# Altium schematic symbol library Libreria_Casera.SchLib: 169 symbols (part 2 of 2)
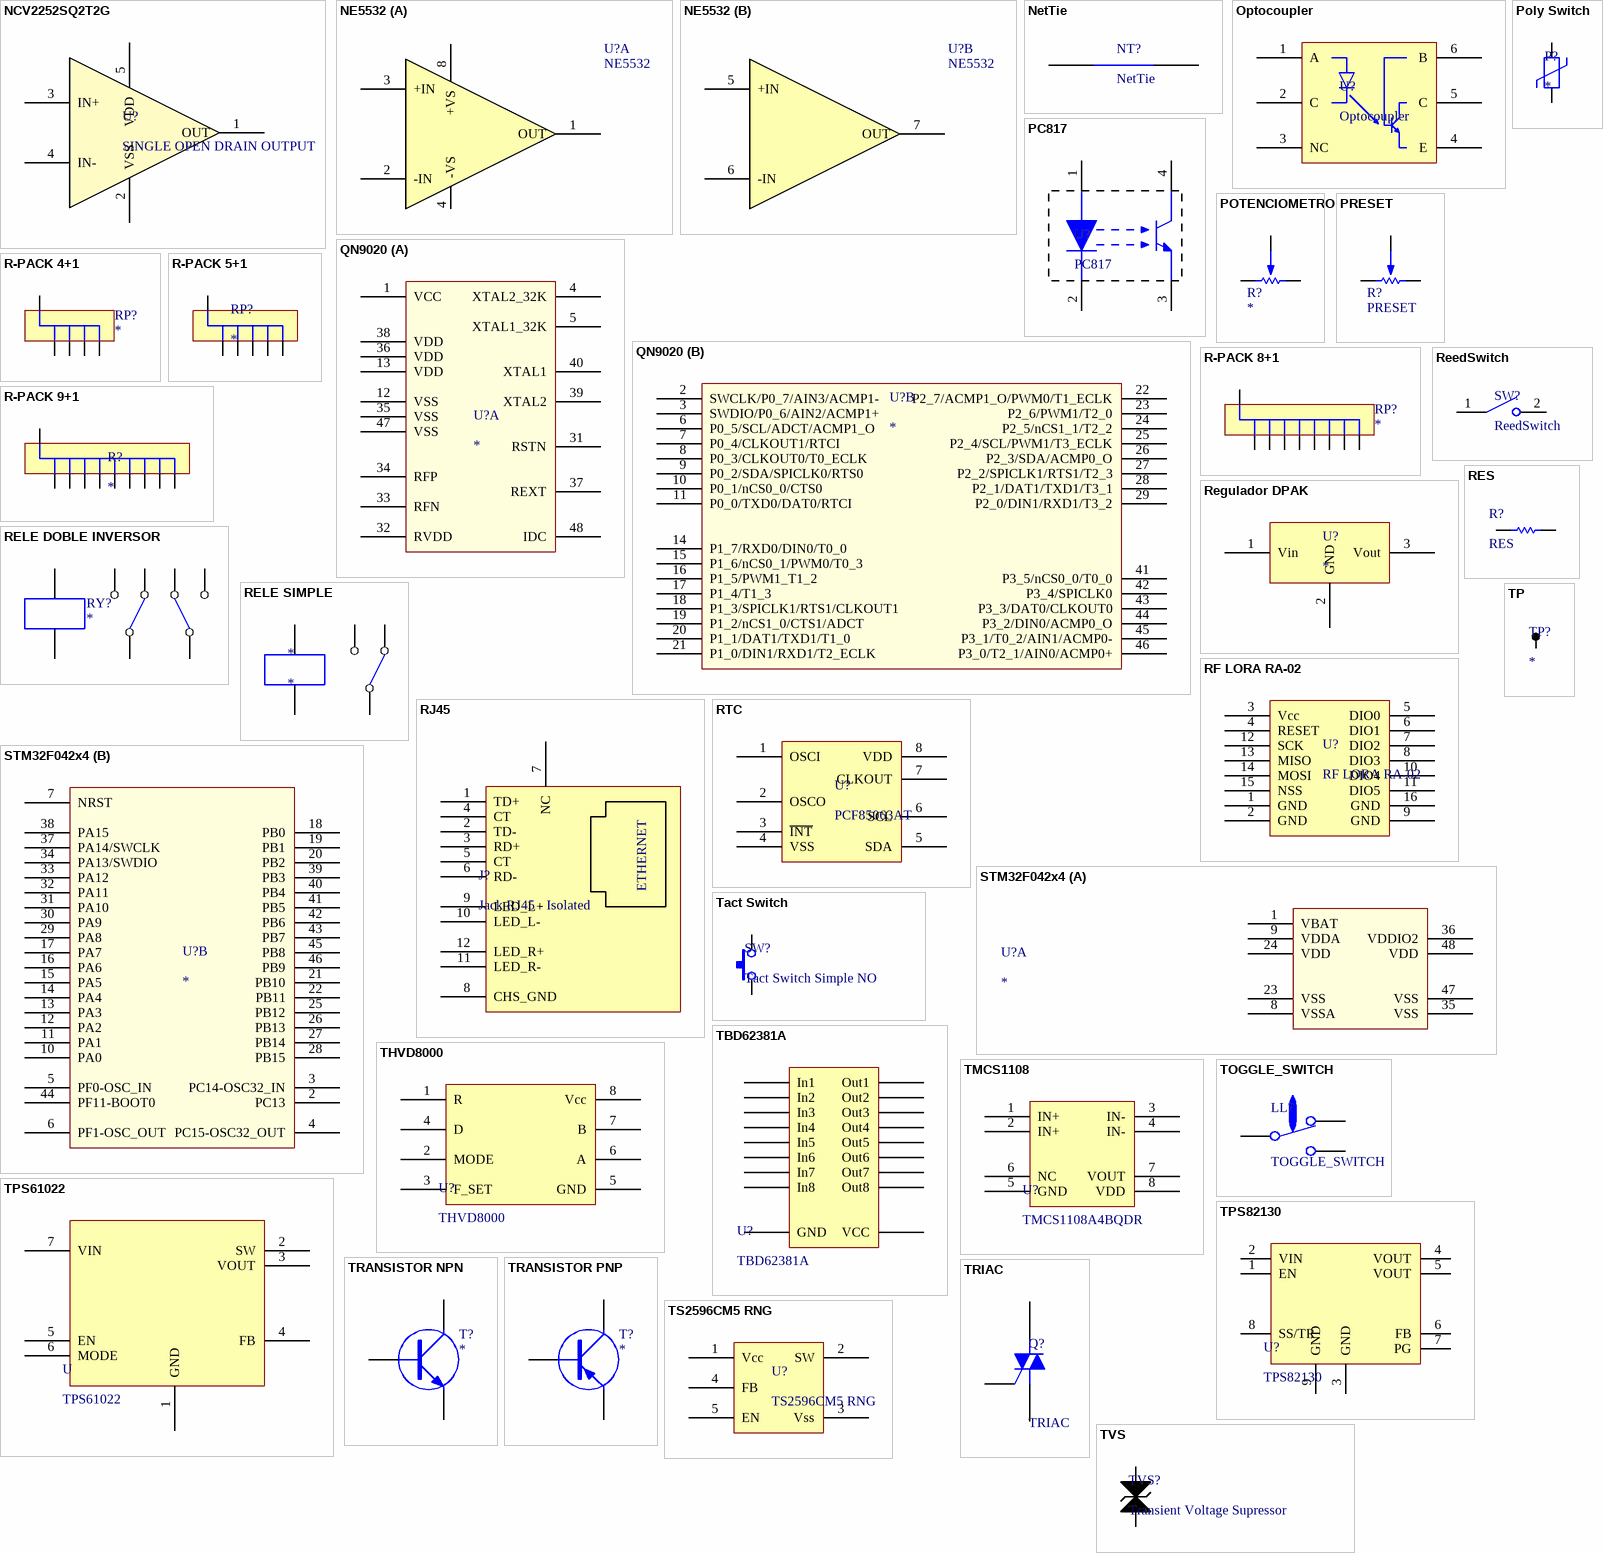
[diagram p8: symbols NCV2252SQ2T2G to TVS]

## RES
designator R?
footprint 0805 (Chip Resistor, 2-Leads, Body 0,8"x0,5" - 2,0x1,3mm, IPC High Density)
footprint RES400
footprint RES100
footprint RES300
footprint 1206 (Pasivo 1206)
footprint RES500
footprint RES600
footprint RES1200
footprint 2512
footprint 0402 (Chip Resistor, 2-Leads, Body 1,00x0,50mm, IPC Medium Density)
footprint 0603 (Pasivo 0603)
pins: 1, 2

## RF LORA RA-02
designator U?
ISM General < 1GHz LoRa™ Módulos de transceptor RF 410MHz ~ 525MHz Antena no incluida, I-PEX Montaje en superficie
footprint RF LORA RA-02 (LORA MODULE, 433MHZ, SEMTECH SX1)
pins: 1 GND, 2 GND, 3 Vcc, 4 RESET, 5 DIO0, 6 DIO1, 7 DIO2, 8 DIO3, 9 GND, 10 DIO4, 11 DIO5, 12 SCK, 13 MISO, 14 MOSI, 15 NSS, 16 GND

## RJ45
designator J?, comment Jack RJ45 - Isolated
pins: 1 TD+, 2 TD-, 3 RD+, 4 CT, 5 CT, 6 RD-, 7 NC, 8 CHS_GND, 9 LED_L+, 10 LED_L-, 11 LED_R-, 12 LED_R+
text: ETHERNET

## RTC
designator U?, comment PCF85063AT
Relojes de tiempo real (RTC) IC Reloj/calendario I²C, 2 conductores en serie 8-SOIC (ancho 0.154", 3.90mm)
footprint SO8
pins: 1 OSCI, 2 OSCO, 3 ~{INT}, 4 VSS, 5 SDA, 6 SCL, 7 CLKOUT, 8 VDD

## STM32F042x4
designator U?
ARM®-based 32-bit MCU, up to 32 KB Flash, crystal-less USB  FS 2.0, CAN, 9 timers, ADC and comm. interfaces, 2.0 - 3.6 V
footprint LQFP48 - 7x7
part A pins: 1 VBAT, 8 VSSA, 9 VDDA, 23 VSS, 24 VDD, 35 VSS, 36 VDDIO2, 47 VSS, 48 VDD
part B pins: 2 PC13, 3 PC14-OSC32_IN, 4 PC15-OSC32_OUT, 5 PF0-OSC_IN, 6 PF1-OSC_OUT, 7 NRST, 10 PA0, 11 PA1, 12 PA2, 13 PA3, 14 PA4, 15 PA5, 16 PA6, 17 PA7, 18 PB0, 19 PB1, 20 PB2, 21 PB10, 22 PB11, 25 PB12, 26 PB13, 27 PB14, 28 PB15, 29 PA8, 30 PA9, 31 PA10, 32 PA11, 33 PA12, 34 PA13/SWDIO, 37 PA14/SWCLK, 38 PA15, 39 PB3, 40 PB4, 41 PB5, 42 PB6, 43 PB7, 44 PF11-BOOT0, 45 PB8, 46 PB9

## Tact Switch
designator SW?, comment Tact Switch Simple NO
footprint Tactswitch_90
pins: 1 127, 2 28

## TBD62381A
designator U?
footprint Soic18w
pins: 1 In1, 2 In2, 3 In3, 4 In4, 5 In5, 6 In6, 7 In7, 8 In8, 9 GND, 10 VCC, 11 Out8, 12 Out7, 13 Out6, 14 Out5, 15 Out4, 16 Out3, 17 Out2, 18 Out1

## THVD8000
designator U?
footprint sot23-8 (TSOP, 8-Leads, Body 2,90x1,60mm, Pitch 0,65mm, IPC Medium Density)
pins: 1 R, 2 MODE, 3 F_SET, 4 D, 5 GND, 6 A, 7 B, 8 Vcc

## TMCS1108
designator U?, comment TMCS1108A4BQDR
Supplier 1: Digi-Key; Supplier Part Number 1: 296-TMCS1108A4BQDRCT-ND
footprint SO8
pins: 1 IN+, 2 IN+, 3 IN-, 4 IN-, 5 GND, 6 NC, 7 VOUT, 8 VDD

## TOGGLE_SWITCH
designator LL?
Pulsador con reteción
footprint TOOGLE SWITCH SIMPLE
pins: 1 NA, 2 C, 3 NC

## TP
designator TP?
footprint TPSMD
footprint TPTH
footprint cableawg20
footprint cableawg22
footprint TP_COMPACT (Keystone 5006 type Testpoint)
pins: 1

## TPS61022
designator U
footprint VQFN-HR(7)
pins: 1 GND, 2 SW, 3 VOUT, 4 FB, 5 EN, 6 MODE, 7 VIN

## TPS82130
designator U?
footprint uSIP-08 (PSON, 8-Leads, Body 3.00x2.80mm, Pitch 0.65mm, Thermal Pad 1.90x1.10mm, IPC Medium Density)
pins: 1 EN, 2 VIN, 3 GND, 4 VOUT, 5 VOUT, 6 FB, 7 PG, 8 SS/TR, 9 GND

## TRANSISTOR NPN
designator T?
footprint SOT23
footprint TO92
footprint TO-220 H
footprint TO-220 V
footprint TO-220 H - DISIPADOR
footprint TO-126 V
footprint DPAK
footprint D2PAK
pins: 1 B, 2 C, 3 E

## TRANSISTOR PNP
designator T?
footprint SOT23
footprint TO92
footprint TO-220 H
footprint TO-220 V
footprint TO-220 H - DISIPADOR
footprint TO-126 V
footprint DPAK
footprint D2PAK
pins: 1 B, 2 C, 3 E

## TRIAC
designator Q?
footprint TO-220 H
footprint TO-220 V
pins: 1 M1, 2 M2, 3 G

## TS2596CM5 RNG
designator U?
IC REG BUCK ADJ 3A TO263-5
footprint D2PAK-5 (D2-PAK, 6-Pads, Body 7,77x8,48mm (max), IPC Medium Density)
pins: 1 Vcc, 2 SW, 3 Vss, 4 FB, 5 EN

## TVS
designator TVS?, comment Transient Voltage Supressor
footprint SMA (SMA DIode Package)
footprint SMB (SMB Diode Package)
footprint SMC (SMC Diode Package)
pins: 1, 2

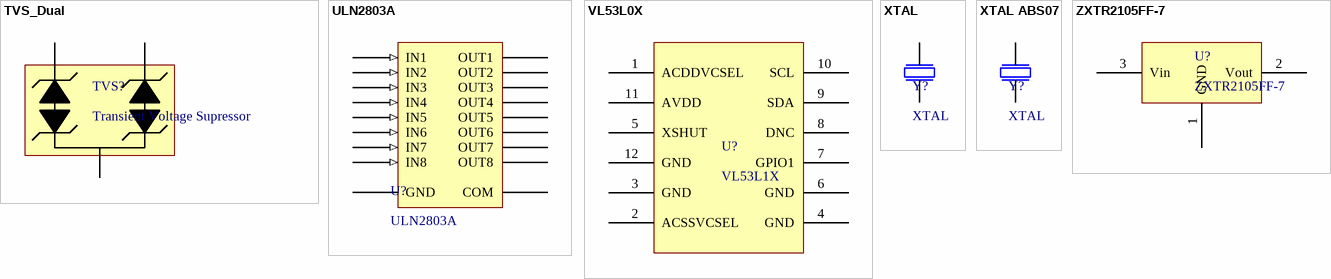
[diagram p7: symbols TVS_Dual to ZXTR2105FF-7]

## TVS_Dual
designator TVS?, comment Transient Voltage Supressor
footprint SOT23-3 (SOT23, 3-Leads, Body 2,90x2,45mm, Pitch 0,95mm, IPC Medium Density)
pins: 1, 2, 3

## ULN2803A
designator U?
footprint SOIC18
footprint soic18w
footprint dip18
pins: 1 IN1 (in), 2 IN2 (in), 3 IN3 (in), 4 IN4 (in), 5 IN5 (in), 6 IN6 (in), 7 IN7 (in), 8 IN8 (in), 9 GND (power), 10 COM (oc), 11 OUT8 (oc), 12 OUT7 (oc), 13 OUT6 (oc), 14 OUT5 (oc), 15 OUT4 (oc), 16 OUT3 (oc), 17 OUT2 (oc), 18 OUT1 (oc)

## VL53L0X
designator U?, comment VL53L1X
VL53L1X Luz, tiempo de vuelo 3 D Sensor
pins: 1 ACDDVCSEL, 2 ACSSVCSEL, 3 GND, 4 GND, 5 XSHUT, 6 GND, 7 GPIO1, 8 DNC, 9 SDA, 10 SCL, 11 AVDD, 12 GND

## XTAL
designator Y?
XTAL ABS25 by ABRACON LLC
footprint ABS25_XTAL
footprint ABM3C_Xtal (Crystal Abracon LLC. ABM3C)
pins: 1 34, 4 35

## XTAL ABS07
designator Y?, comment XTAL
XTAL ABS07 by ABRACON LLC
footprint ABS25_XTAL
footprint ABM3C_Xtal (Crystal Abracon LLC. ABM3C)
footprint ABS07_Xtal
pins: 1 34, 2 35

## ZXTR2105FF-7
designator U?
Linear Voltage Regulator IC Positive Fixed 1 Output 89mA SOT-23F
footprint SOT23
pins: 1 GND, 2 Vout, 3 Vin